# Altium integrated library 757571431.IntLib: 1 symbol
Pins are listed as number, name and electrical type; pins without a type are passive.

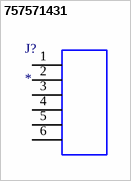
[diagram p0: symbol 757571431]

## 757571431
designator J?
Conn Unshrouded Header HDR 6 POS 3.5mm Solder ST Thru-Hole MX 150â„¢ Automotive Tube; MF: Molex; MP: 757571431; SnapEDA_Link: https://www.snapeda.com/parts/757571431/Molex/view-part/?ref=snap; Package: None; Value: *; Check_prices: https://www.snapeda.com/parts/757571431/Molex/view-part/?ref=eda
footprint CONN_SD-75757-002_2X03_F11P20_
pins: 1, 2, 3, 4, 5, 6